# EAGLE library part 6621XX130822_662106130822 (library Wurth_Connectors_WR-MPC3)
WR-MPC3 3.00 mm SMT Male Single Row Angled Header with THT Retention Clip KIND PROPERTIES Pitch 3 mm Gender Male MATERIAL PROPERTIES Insulator Material LCP Insulator Flammability Rating UL94 V-0 Insulator Color Black Contact Material Copper Alloy Contact Plating Tin Contact Type Stamped GENERAL INFORMATION Operating Temperature -40 up to +105 °C Compliance:RoHS Working Voltage 250 V (AC) Withstanding Voltage 1500 V (AC) Contact Resistance 10 mΩ RISO 1000 MΩ CERTIFICATION UL Approval E323964 WIRE PROPERTIES Packaging Tape and Reel <https://katalog.we-online.de/media/images/v2/o58957v209%20Family_WRMPC3-6621xx130822_SW.jpg> Details see: https://katalog.we-online.de/en/em/MPC3_3_00_SMT_MALE_SINGLE_ROW_ANGLED_HEADER_W_THT_RETENTION_CLIP_6621XX130822 Created by Yingchun,Shan 2019-11-15 2019 (C) Würth Elektronik
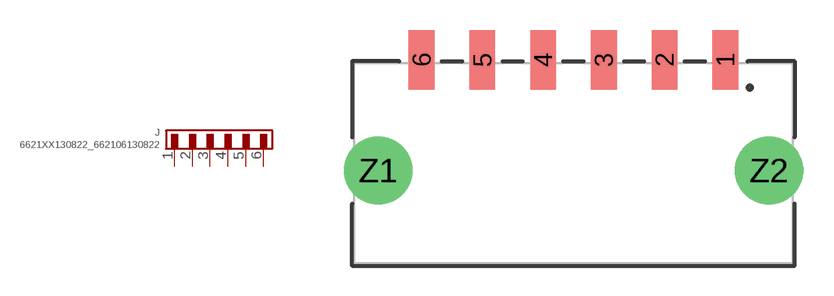
[diagram p102: symbol with the pads of 662106130822; footprint 662106130822]

Designator prefix J

## 6621XX130822_662106130822 (CONTACT-RESISTANCE: 10Ohm; DATASHEET-URL: https://www.we-online.com/redexpert/spec/662106130822?ae; GENDER: Male; IR: 5A; MOUNT: SMT; PART-NUMBER: 662106130822; PINS: 6; PITCH: 3mm; ROWS: Single; TOL-R: max.; TYPE: Right Angled; VALUE: 662106130822; WORKING-VOLTAGE: 250V(AC))  [662106130822]
1  1  pas
2  2  pas
3  3  pas
4  4  pas
5  5  pas
6  6  pas

## Footprint 662106130822 (pad centres in mm)
WR-MPC3 3.00 mm SMT Male Right Angled Header with Snap-In Plastic Pegs,6Pins
smd 1.27 x 2.92: 1 7.5,5.12; 2 4.5,5.12; 3 1.5,5.12; 4 -1.5,5.12; 5 -4.5,5.12; 6 -7.5,5.12
drill 2.35: Z1 -9.64,-0.35; Z2 9.66,-0.35